# Altium schematic symbol library Comp1.SchLib: 12 symbols
Pins are listed as number, name and electrical type; pins without a type are passive.

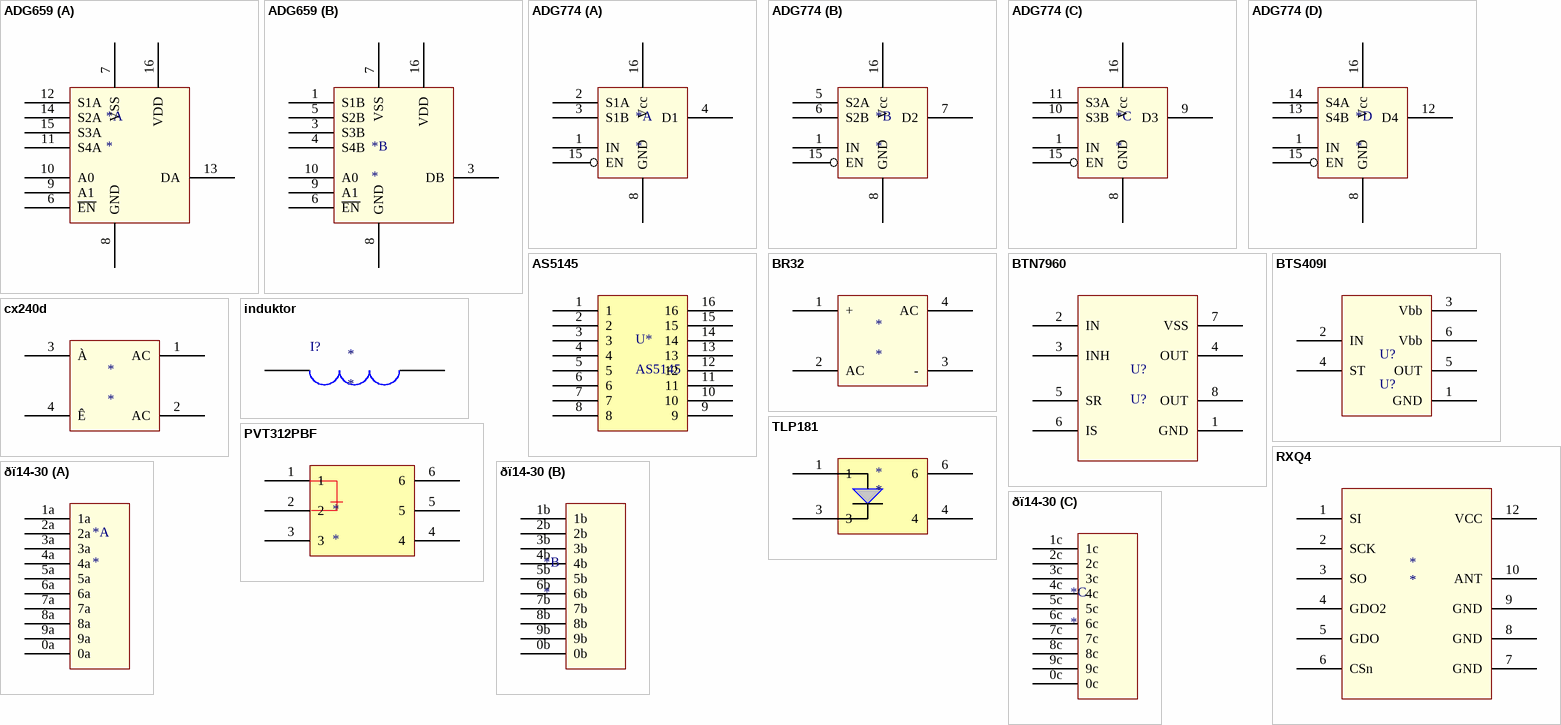
[diagram p0: symbols ADG659 to ðï14-30]

## ADG659
designator *
footprint SOP16
part A pins: 6 ~{EN}, 7 VSS, 8 GND, 9 A1, 10 A0, 11 S4A, 12 S1A, 13 DA, 14 S2A, 15 S3A, 16 VDD
part B pins: 1 S1B, 3 S3B, 3 DB, 4 S4B, 5 S2B, 6 ~{EN}, 7 VSS, 8 GND, 9 A1, 10 A0, 16 VDD

## ADG774
designator *
footprint SOIC127P600-16N (SOIC, 16-Leads, Body 9.9x3.9mm, Pitch 1.27mm, IPC Medium Density)
part A pins: 1 IN, 2 S1A, 3 S1B, 4 D1, 8 GND, 15 EN, 16 Vcc
part B pins: 1 IN, 5 S2A, 6 S2B, 7 D2, 8 GND, 15 EN, 16 Vcc
part C pins: 1 IN, 8 GND, 9 D3, 10 S3B, 11 S3A, 15 EN, 16 Vcc
part D pins: 1 IN, 8 GND, 12 D4, 13 S4B, 14 S4A, 15 EN, 16 Vcc

## AS5145
designator U*
footprint SOP65P780X190-16N (SOP, 16-Leads, Body 6,5x5,6mm (max), Pitch 0,65mm, IPC Medium Density)
pins: 1, 2, 3, 4, 5, 6, 7, 8, 9, 10, 11, 12, 13, 14, 15, 16

## BR32
designator *
footprint BR3
pins: 1 +, 2 AC, 3 -, 4 AC

## BTN7960
designator U?, comment U?
footprint TO263
pins: 1 GND, 2 IN, 3 INH, 4 OUT, 5 SR, 6 IS, 7 VSS, 8 OUT

## BTS409l
designator U?, comment U?
footprint BTS409
pins: 1 GND, 2 IN, 3 Vbb, 4 ST, 5 OUT, 6 Vbb

## cx240d
designator *
pins: 1 AC, 2 AC, 3 À, 4 Ê

## induktor
designator *
footprint induktor
footprint CDRH64BNP
pins: 1, 2
text: I?

## PVT312PBF
designator *
footprint DIP6
pins: 1, 2, 3, 4, 5, 6

## RXQ4
designator *
footprint RXQ-4
pins: 1 SI, 2 SCK, 3 SO, 4 GDO2, 5 GDO, 6 CSn, 7 GND, 8 GND, 9 GND, 10 ANT, 12 VCC

## TLP181
designator *
footprint flat_dip4
pins: 1, 3, 4, 6

## ðï14-30
designator *
footprint ÐÏ-14-30
part A pins: 0a, 1a, 2a, 3a, 4a, 5a, 6a, 7a, 8a, 9a
part B pins: 0b, 1b, 2b, 3b, 4b, 5b, 6b, 7b, 8b, 9b
part C pins: 0c, 1c, 2c, 3c, 4c, 5c, 6c, 7c, 8c, 9c